# Altium footprint library KG1.PcbLib: 1 footprints
Each footprint in its own frame and in the unit in brackets; x right, y up, seen from the top. Pads: shape width x height; smd on the part's side, far side on the other; paste and mask are expansions set on the pad; w line width, h text height; cw(c..) or ccw(c..) is an arc to the next point about the centre after c.
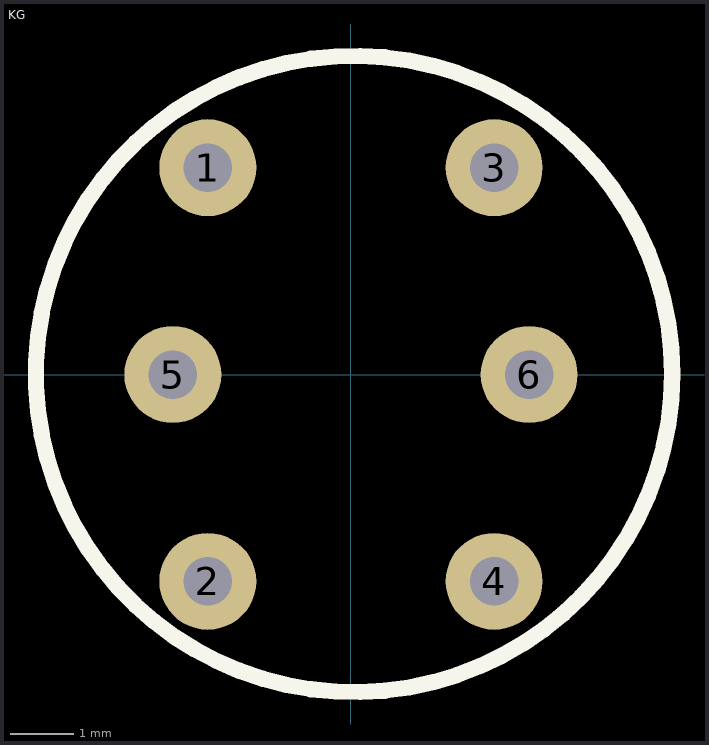
[diagram p0: the footprint, top view; thin cyan lines are the x and y axes]

## KG [mil] "3.3V"
pads (6):
  round 60 hole 30: 1(-88.58,127.95) 2(-88.58,-127.95) 3(88.58,127.95) 4(88.58,-127.95) 5(-110.24,0) 6(110.24,0)
Top Overlay:
  circle w10: c1.87,0.32 r196.85